# EAGLE library part TEENSY2-ARDUINO (library teensy2_ams)
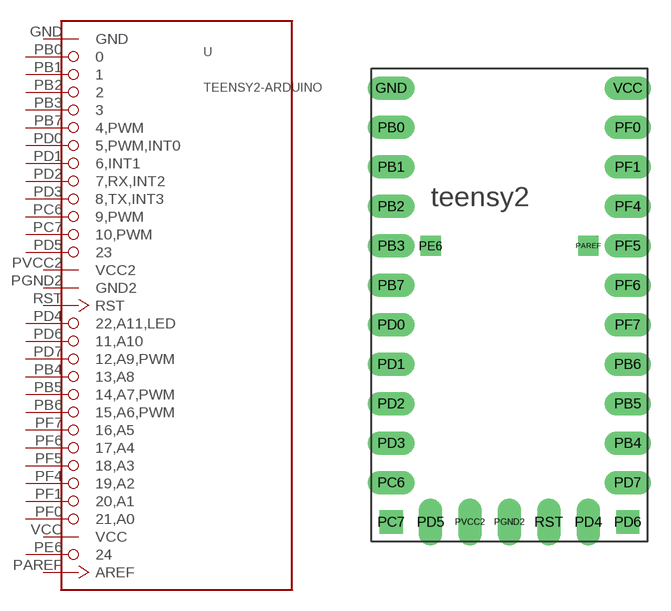
[diagram p1: symbol with the pads of TEENSY2; footprint TEENSY2]

Designator prefix -

## TEENSY2-ARDUINO  [TEENSY2]
GND  GND  pwr
PAREF  AREF  in
PB0  0
PB1  1
PB2  2
PB3  3
PB4  13,A8
PB5  14,A7,PWM
PB6  15,A6,PWM
PB7  4,PWM
PC6  9,PWM
PC7  10,PWM
PD0  5,PWM,INT0
PD1  6,INT1
PD2  7,RX,INT2
PD3  8,TX,INT3
PD4  22,A11,LED
PD5  23
PD6  11,A10
PD7  12,A9,PWM
PE6  24
PF0  21,A0
PF1  20,A1
PF4  19,A2
PF5  18,A3
PF6  17,A4
PF7  16,A5
PGND2  GND2  pwr
PVCC2  VCC2  pwr
RST  RST  in
VCC  VCC  pwr

## Footprint TEENSY2 (pad centres in mm)
http://pjrc.com/teensy/index.html
drill 1 long: GND 12.7,21.59; PB0 12.7,19.05; PB1 12.7,16.51; PB2 12.7,13.97; PB3 12.7,11.43; PB4 27.94,-1.27; PB5 27.94,1.27; PB6 27.94,3.81; PB7 12.7,8.89; PC6 12.7,-3.81; PD0 12.7,6.35; PD1 12.7,3.81; PD2 12.7,1.27; PD3 12.7,-1.27; PD4 25.4,-6.35; PD5 15.24,-6.35; PD7 27.94,-3.81; PF0 27.94,19.05; PF1 27.94,16.51; PF4 27.94,13.97; PF5 27.94,11.43; PF6 27.94,8.89; PF7 27.94,6.35; PGND2 20.32,-6.35; PVCC2 17.78,-6.35; RST 22.86,-6.35; VCC 27.94,21.59
drill 0.8 square: PAREF 25.4,11.43; PE6 15.24,11.43
drill 1 square: PC7 12.7,-6.35; PD6 27.94,-6.35